# Altium footprint library PCB - CONNECTOR - MOLEX - MOLEX 2082410200.PcbLib: 1 footprints
Each footprint in its own frame and in the unit in brackets; x right, y up, seen from the top. Pads: shape width x height; smd on the part's side, far side on the other; paste and mask are expansions set on the pad; w line width, h text height; cw(c..) or ccw(c..) is an arc to the next point about the centre after c.
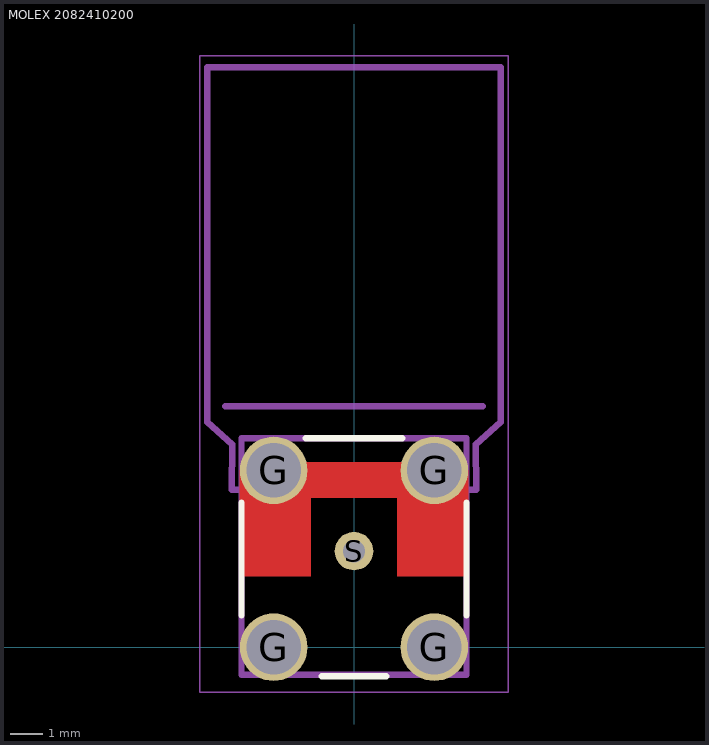
[diagram p0: the footprint, top view; thin cyan lines are the x and y axes]

## MOLEX 2082410200 [mm] "HFM®, Fakra Connector Plug, Male Pin 50 Ohms Through Hole, Right Angle Solder"
height 11.05
pads (5):
  round 2.1 hole 1.7: G(-2.5,0) G(-2.5,5.5) G(2.5,0) G(2.5,5.5)
  round 1.2 hole 0.7: S(0,2.99)
Top Layer:
  region: -3.55,2.2 -3.55,5.5 -1.8,5.5 -1.8,5.75 1.8,5.75 1.8,5.5 3.55,5.5 3.55,2.2 1.35,2.2 1.35,4.65 -1.35,4.65 -1.35,2.2
Top Overlay:
  lines w0.2: -3.5,1 -3.5,4.5 ; -1.5,6.5 1.5,6.5 ; -1,-0.9 1,-0.9 ; 3.5,1 3.5,4.5
Top Component Outline:
  lines w0.2: -3.5,4.9 -3.798,4.9 -3.789,6.312 -4.563,7 -4.563,18.05 4.563,18.05 4.563,7 3.789,6.312 3.798,4.9 3.5,4.9 ; -3.5,-0.861 -3.5,6.5 3.5,6.5 3.5,-0.861 -3.5,-0.861
Top Assembly:
  lines w0.2: -4,7.5 4,7.5
Top Courtyard:
  lines w0.05: -0.5,2.99 0.5,2.99 ; 0,2.49 0,3.49 ; -4.8,-1.4 4.8,-1.4 4.8,18.4 -4.8,18.4 -4.8,-1.4
3D body "Molex - 2082410200.step": height 11, standoff -2.45, extent -4.563,-0.8 4.563,18.05